# Altium footprint library ZenerDiode_BZX84-A3V0215_SOT23-3.PcbLib: 1 footprints
Each footprint in its own frame and in the unit in brackets; x right, y up, seen from the top. Pads: shape width x height; smd on the part's side, far side on the other; paste and mask are expansions set on the pad; w line width, h text height; cw(c..) or ccw(c..) is an arc to the next point about the centre after c.
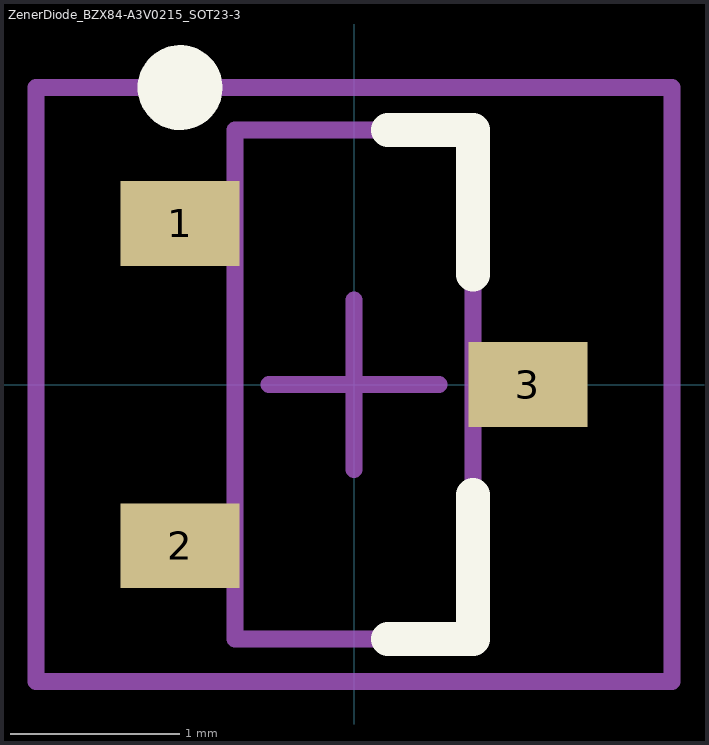
[diagram p0: the footprint, top view; thin cyan lines are the x and y axes]

## ZenerDiode_BZX84-A3V0215_SOT23-3 [mm]
height 1.1
pads (3):
  rect 0.7x0.5 smd: 1(-1.025,0.95) 2(-1.025,-0.95) 3(1.025,0)
Top Overlay:
  circle w0.25: c-1.025,1.75 r0.125
  lines w0.2: 0.2,-1.5 0.7,-1.5 0.7,-0.65 ; 0.2,1.5 0.7,1.5 0.7,0.65
Mechanical 13:
  lines w0.1: -0.7,-1.5 -0.7,1.5 0.7,1.5 0.7,-1.5 -0.7,-1.5
Mechanical 15:
  lines w0.1: -0.5,0 0.5,0 ; 0,-0.5 0,0.5 ; -1.875,-1.75 -1.875,1.75 1.875,1.75 1.875,-1.75 -1.875,-1.75
3D body: height 1.1, standoff 0.01, extent -0.7,-1.5 0.7,1.5